# Altium schematic symbol library Metal_Opera_Key.SchLib: 1 symbol
Pins are listed as number, name and electrical type; pins without a type are passive.

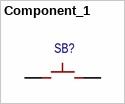
[diagram p0: symbol Component_1]

## Component_1
designator SB?  (value not drawn)
pins: 0, 1